# EAGLE library part PCF8575C (library pcf8575c)
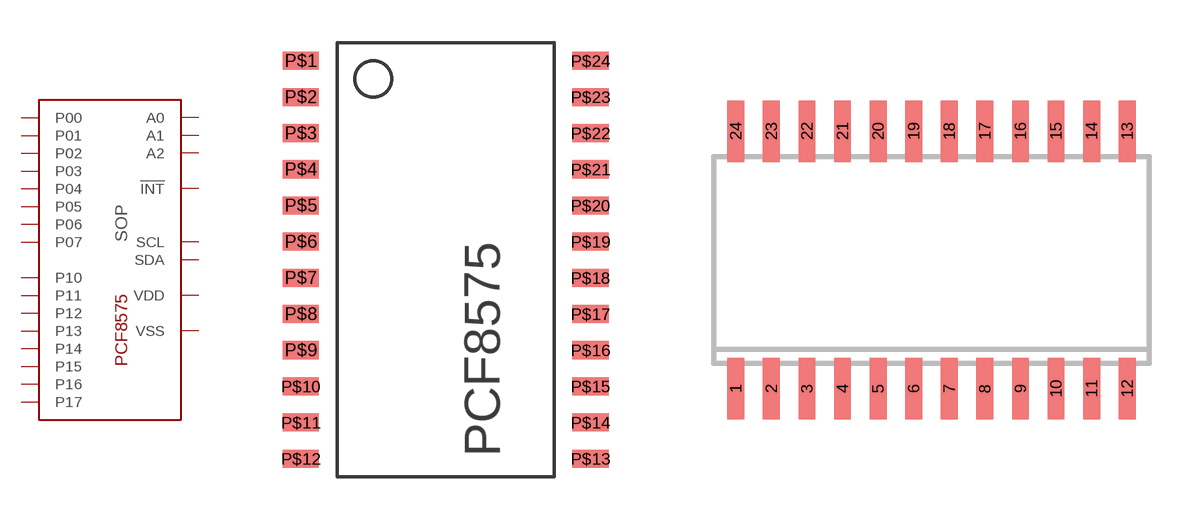
[diagram p0: symbol with the pads of SOP24; footprints SOP24, SO24W]

Designator prefix SOP

## PCF8575C  [SOP24]
P$1  !INT  oc
P$2  A1  in
P$3  A2  in
P$4  P00
P$5  P01
P$6  P02
P$7  P03
P$8  P04
P$9  P05
P$10  P06
P$11  P07
P$12  VSS  pwr
P$13  P10
P$14  P11
P$15  P12
P$16  P13
P$17  P14
P$18  P15
P$19  P16
P$20  P17
P$21  A0  in
P$22  SCL  in
P$23  SDA
P$24  VDD  pwr

## PCF8575CSOIC24  [SO24W]
1  !INT  oc
2  A1  in
3  A2  in
4  P00
5  P01
6  P02
7  P03
8  P04
9  P05
10  P06
11  P07
12  VSS  pwr
13  P10
14  P11
15  P12
16  P13
17  P14
18  P15
19  P16
20  P17
21  A0  in
22  SCL  in
23  SDA
24  VDD  pwr

## Footprint SOP24 (pad centres in mm)
smd 1.27 x 0.635: P$1 -1.27,14.605; P$2 -1.27,13.335; P$3 -1.27,12.065; P$4 -1.27,10.795; P$5 -1.27,9.525; P$6 -1.27,8.255; P$7 -1.27,6.985; P$8 -1.27,5.715; P$9 -1.27,4.445; P$10 -1.27,3.175; P$11 -1.27,1.905; P$12 -1.27,0.635; P$13 8.89,0.635; P$14 8.89,1.905; P$15 8.89,3.175; P$16 8.89,4.445; P$17 8.89,5.715; P$18 8.89,6.985; P$19 8.89,8.255; P$20 8.89,9.525; P$21 8.89,10.795; P$22 8.89,12.065; P$23 8.89,13.335; P$24 8.89,14.605

## Footprint SO24W (pad centres in mm)
SMALL OUTLINE INTEGRATED CIRCUIT wide body 7.5 mm/JEDEC MO-119AA
smd 0.6 x 2.2: 1 -6.985,-4.6; 2 -5.715,-4.6; 3 -4.445,-4.6; 4 -3.175,-4.6; 5 -1.905,-4.6; 6 -0.635,-4.6; 7 0.635,-4.6; 8 1.905,-4.6; 9 3.175,-4.6; 10 4.445,-4.6; 11 5.715,-4.6; 12 6.985,-4.6; 13 6.985,4.6; 14 5.715,4.6; 15 4.445,4.6; 16 3.175,4.6; 17 1.905,4.6; 18 0.635,4.6; 19 -0.635,4.6; 20 -1.905,4.6; 21 -3.175,4.6; 22 -4.445,4.6; 23 -5.715,4.6; 24 -6.985,4.6